# Altium schematic symbol library SN74AXC8T245PWR.SchLib: 1 symbol
Pins are listed as number, name and electrical type; pins without a type are passive.

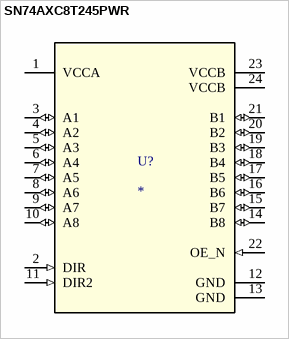
[diagram p0: symbol SN74AXC8T245PWR]

## SN74AXC8T245PWR
designator U?
8-Bit Dual-Supply Bus Transceiver With Configurable Voltage Translation and Tri-State Outputs; PartNumber: SN74AXC8T245PWR; Manufacturer: Texas Instruments; RefDes: RefDes; Type: DEV; Value: Value; Copyright: Copyright (C) 2021 Accelerated Designs. All rights reserved
footprint PW0024A_N
pins: 1 VCCA (power), 2 DIR (in), 3 A1 (io), 4 A2 (io), 5 A3 (io), 6 A4 (io), 7 A5 (io), 8 A6 (io), 9 A7 (io), 10 A8 (io), 11 DIR2 (in), 12 GND (power), 13 GND (power), 14 B8 (io), 15 B7 (io), 16 B6 (io), 17 B5 (io), 18 B4 (io), 19 B3 (io), 20 B2 (io), 21 B1 (io), 22 OE_N (in), 23 VCCB (power), 24 VCCB (power)